# Altium footprint library 直插.PcbLib: 159 footprints (part 4 of 10)
Each footprint in its own frame and in the unit in brackets; x right, y up, seen from the top. Pads: shape width x height; smd on the part's side, far side on the other; paste and mask are expansions set on the pad; w line width, h text height; cw(c..) or ccw(c..) is an arc to the next point about the centre after c.
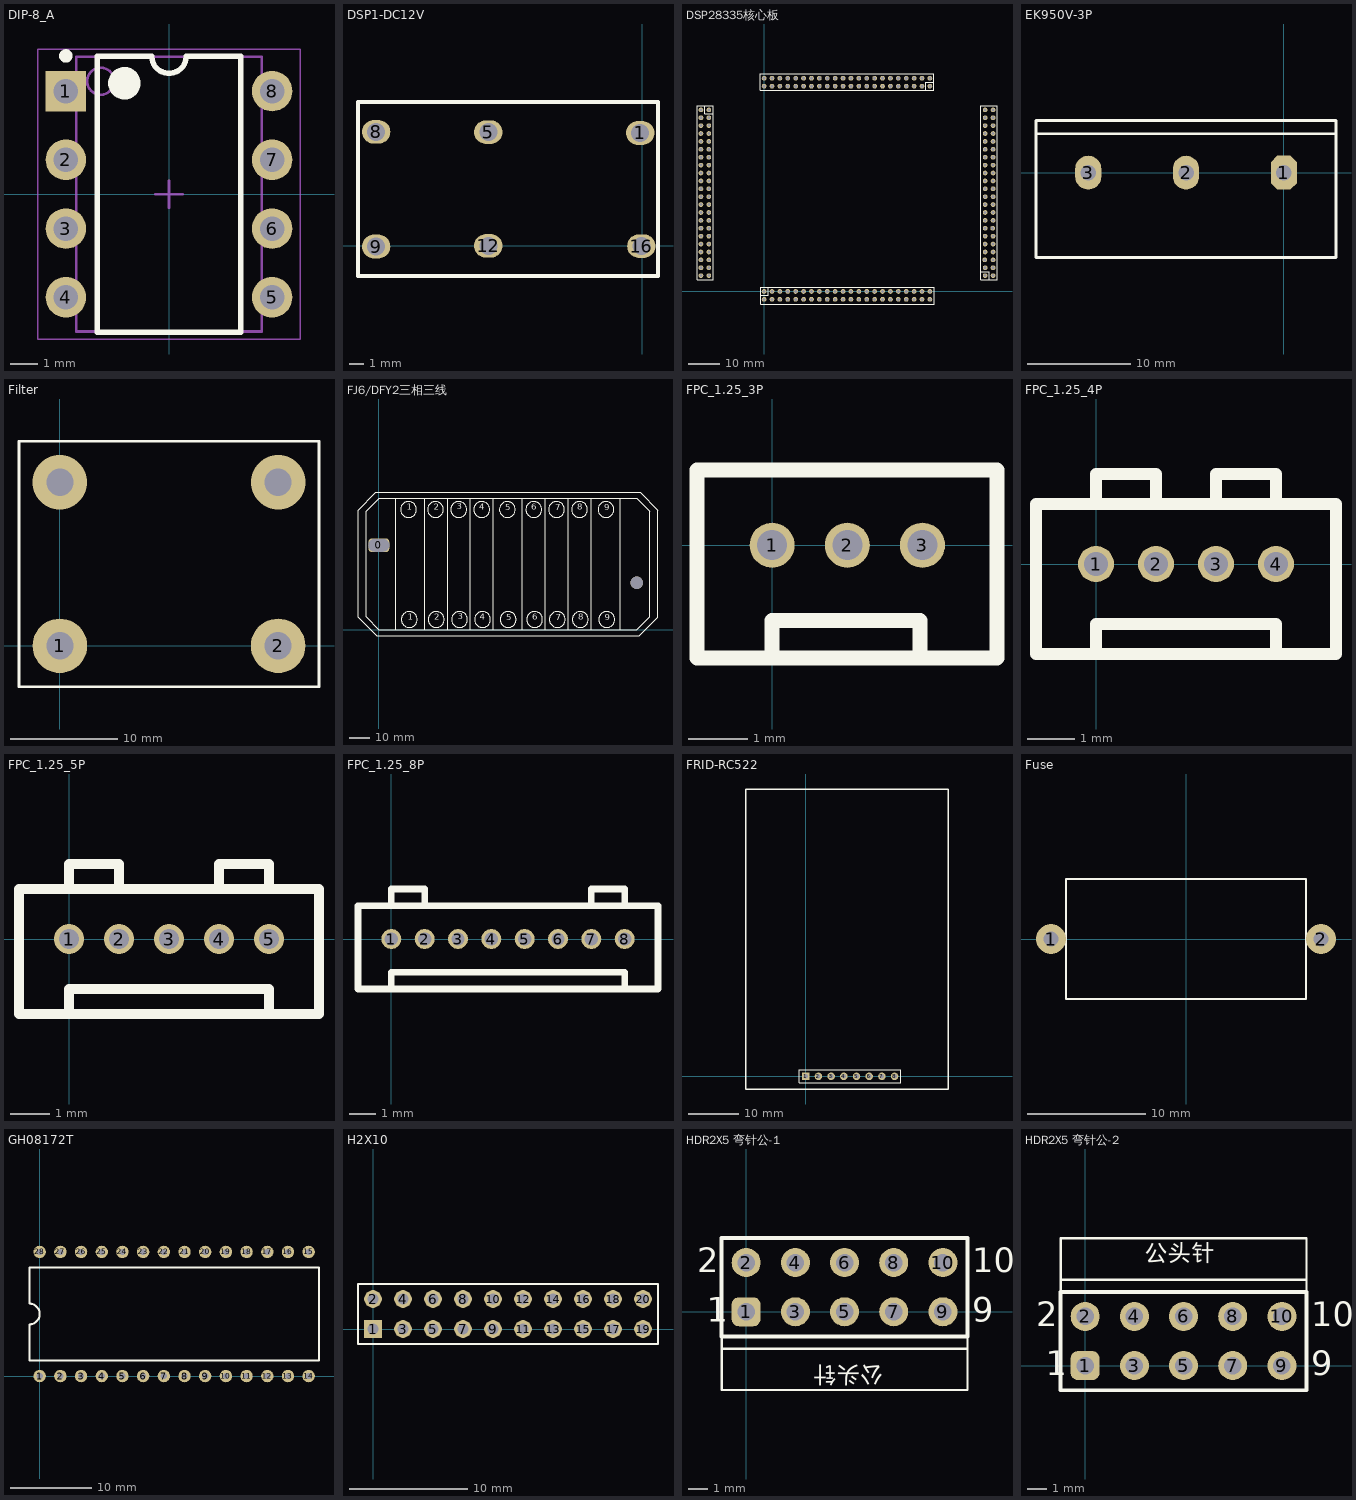
[diagram p3: the footprints below, top view; thin cyan lines are the x and y axes]

## DIP-8_A [mm] "DIP, 8-Leads, Body 10.16x6.85mm, Pitch 2.54mm"
height 4.54
pads (8):
  rect 1.5x1.5 hole 0.9: 1(-3.81,3.81)
  round 1.5 hole 0.9: 2(-3.81,1.27) 3(-3.81,-1.27) 4(-3.81,-3.81) 5(3.81,-3.81) 6(3.81,-1.27) 7(3.81,1.27) 8(3.81,3.81)
Top Overlay:
  circle w0.25: c-3.81,5.11 r0.125
  circle w0.6: c-1.65,4.1 r0.3
  lines w0.2: -2.65,-5.1 -2.65,5.1 -0.635,5.1 ccw(c0,5.1) 0.635,5.1 2.65,5.1 2.65,-5.1 -2.65,-5.1
Mechanical 13:
  circle w0.1: c-2.525,4.175 r0.5
  lines w0.1: -3.425,-5.075 -3.425,5.075 3.425,5.075 3.425,-5.075 -3.425,-5.075
Mechanical 15:
  lines w0.05: -4.85,-5.35 -4.85,5.35 4.85,5.35 4.85,-5.35 -4.85,-5.35
  lines w0.1: -0.5,0 0.5,0 ; 0,-0.5 0,0.5
3D body: height 2.39, standoff 0, extent -3.945,3.31 -3.675,4.31
3D body: height 2.66, standoff 2.38, extent -3.945,3.31 -3.425,4.31
3D body: height 0, standoff -1.6, extent -3.945,3.45 -3.675,4.17
3D body: height 2.39, standoff 0, extent -3.945,0.77 -3.675,1.77
3D body: height 2.66, standoff 2.38, extent -3.945,0.77 -3.425,1.77
3D body: height 0, standoff -1.6, extent -3.945,0.91 -3.675,1.63
3D body: height 2.39, standoff 0, extent -3.945,-1.77 -3.675,-0.77
3D body: height 2.66, standoff 2.38, extent -3.945,-1.77 -3.425,-0.77
3D body: height 0, standoff -1.6, extent -3.945,-1.63 -3.675,-0.91
3D body: height 2.39, standoff 0, extent -3.945,-4.31 -3.675,-3.31
3D body: height 2.66, standoff 2.38, extent -3.945,-4.31 -3.425,-3.31
3D body: height 0, standoff -1.6, extent -3.945,-4.17 -3.675,-3.45
3D body: height 2.39, standoff 0, extent 3.675,-4.31 3.945,-3.31
3D body: height 2.66, standoff 2.38, extent 3.425,-4.31 3.945,-3.31
3D body: height 0, standoff -1.6, extent 3.675,-4.17 3.945,-3.45
3D body: height 2.39, standoff 0, extent 3.675,-1.77 3.945,-0.77
3D body: height 2.66, standoff 2.38, extent 3.425,-1.77 3.945,-0.77
3D body: height 0, standoff -1.6, extent 3.675,-1.63 3.945,-0.91
3D body: height 2.39, standoff 0, extent 3.675,0.77 3.945,1.77
3D body: height 2.66, standoff 2.38, extent 3.425,0.77 3.945,1.77
3D body: height 0, standoff -1.6, extent 3.675,0.91 3.945,1.63
3D body: height 2.39, standoff 0, extent 3.675,3.31 3.945,4.31
3D body: height 2.66, standoff 2.38, extent 3.425,3.31 3.945,4.31
3D body: height 0, standoff -1.6, extent 3.675,3.45 3.945,4.17
3D body: height 4.54, standoff 0.5, extent -3.425,-5.075 3.425,5.075

## DSP1-DC12V [mm]
pads (6):
  oval 1.9x1.6 hole 1.2: 1(-0.152,7.569) 5(-10.338,7.62) 8(-17.856,7.645) 9(-17.856,-0.051) 12(-10.338,0) 16(-0.076,-0.025)
Top Overlay:
  lines w0.254: -19.075,-2.032 1.041,-2.032 1.041,9.652 -19.075,9.652 -19.075,-2.032

## DSP28335核心板 [mil]
pads (176):
  round 60 hole 40: 1(0,0) 2(0,-100) 3(100,0) 4(100,-100) 5(200,0) 6(200,-100) 7(300,0) 8(300,-100) 9(400,0) 10(400,-100) 11(500,0) 12(500,-100) 13(600,0) 14(600,-100) 15(700,0) 16(700,-100) 17(800,0) 18(800,-100) 19(900,0) 20(900,-100) 21(1000,0) 22(1000,-100) 23(1100,0) 24(1100,-100) 25(1200,0) 26(1200,-100) 27(1300,0) 28(1300,-100) 29(1400,0) 30(1400,-100) 31(1500,0) 32(1500,-100) 33(1600,0) 34(1600,-100) 35(1700,0) 36(1700,-100) 37(1800,0) 38(1800,-100) 39(1900,0) 40(1900,-100) 41(2000,0) 42(2000,-100) 43(2100,0) 44(2100,-100) 45(2800,200) 46(2900,200) 47(2800,300) 48(2900,300) 49(2795,400) 50(2900,400) 51(2800,500) 52(2900,500) 53(2800,600) 54(2900,600) 55(2800,700) 56(2900,700) 57(2800,800) 58(2895,800) 59(2800,900) 60(2900,900) 61(2800,1000) 62(2900,1000) 63(2800,1100) 64(2900,1100) 65(2800,1200) 66(2900,1200) 67(2800,1300) 68(2900,1300) 69(2800,1400) 70(2900,1400) 71(2800,1500) 72(2900,1500) 73(2800,1600) 74(2900,1600) 75(2800,1700) 76(2900,1700) 77(2800,1800) 78(2900,1800) 79(2800,1900) 80(2900,1900) 81(2800,2000) 82(2900,2000) 83(2800,2100) 84(2900,2100) 85(2800,2200) 86(2900,2200) 87(2800,2300) 88(2900,2300) 89(2100,2600) 90(2100,2700) 91(2000,2600) 92(2000,2700) 93(1900,2600) 94(1900,2700) 95(1800,2600) 96(1800,2700) 97(1700,2600) 98(1700,2700) 99(1600,2600) 100(1600,2700) 102(1500,2700) 103(1400,2600) 104(1400,2700) 105(1300,2600) 106(1300,2700) 107(1200,2600) 108(1200,2700) 109(1100,2600) 110(1100,2700) 111(1000,2600) 112(1000,2700) 113(900,2600) 114(900,2700) 115(800,2600) 116(800,2700) 117(700,2600) 118(700,2700) 119(600,2600) 120(600,2700) 121(500,2600) 122(500,2700) 123(400,2600) 124(400,2700) 125(300,2600) 126(300,2700) 127(200,2600) 128(200,2700) 129(100,2600) 130(100,2700) 131(0,2600) 132(0,2700) 133(-700,2300) 134(-800,2300) 135(-700,2200) 136(-800,2200) 137(-700,2100) 138(-800,2100) 139(-700,2000) 140(-800,2000) 141(-700,1900) 142(-800,1900) 143(-700,1800) 144(-800,1800) 145(-700,1700) 146(-800,1700) 147(-700,1600) 148(-800,1600) 149(-700,1500) 150(-800,1500) 151(-700,1400) 152(-800,1400) 153(-700,1300) 154(-800,1300) 155(-700,1200) 156(-800,1200) 157(-700,1100) 158(-800,1100) 159(-700,1000) 160(-800,1000) 161(-700,900) 162(-800,900) 163(-700,800) 164(-800,800) 165(-700,700) 166(-800,700) 167(-700,600) 168(-800,600) 169(-700,500) 170(-800,500) 171(-700,400) 172(-800,400) 173(-700,300) 174(-800,300) 175(-700,200) 176(-800,200)
  round 60 hole 30: 101(1500,2600)
Top Overlay:
  lines w10: -750,2355 -750,2250 -645,2250 ; -45,-50 50,-50 50,55 ; 2050,2550 2050,2650 2150,2650 ; 2750,250 2850,250 2850,145 ; -850,150 -645,150 -645,2355 -850,2355 -850,150 ; -50,2550 -50,2755 2150,2755 2150,2550 -50,2550 ; -45,-160 2155,-160 2155,55 710,55 -45,55 -45,-160 ; 2745,145 2950,145 2950,2355 2745,2355 2745,145

## EK950V-3P [mm] "Dinkle町洋EK950V-03P 印刷线路板型端子 间距9.52mm PCB Terminal Blocks , Screw Connection , Pitch: 9.52mm , M3 , 300/600V, 30A"
pads (3):
  oct 2.54x3.302 hole 1.5: 1(0,0)
  oval 2.54x3.302 hole 1.5: 2(-9.52,0) 3(-19.04,0)
Top Overlay:
  lines w0.254: -24.13,-8.255 -24.13,5.08 ; -24.13,3.81 5.08,3.81
  lines w0.305: -24.13,-8.255 5.08,-8.255 5.08,5.08 -24.13,5.08

## Filter [mil]
pads (2):
  round 200 hole 100: 1(0,0) 2(800,0)
via 800,600 diameter 200 hole 100
via 0,600 diameter 200 hole 100
Top Overlay:
  lines w10: -150,-150 -150,750 950,750 950,-150 -150,-150

## FJ6/DFY2三相三线 [mm] "FJ6/DFY2三相三线计量联合接线盒"
pads (1):
  rrect50% 10x6.5 hole 6 slot 10 at 0 deg: 0(0,40.5)
via 124,22.5 diameter 6 hole 6
via 0,40.5 diameter 6 hole 6
Top Overlay:
  circle w0.254: c14.605,4.826 r3.812
  circle w0.254: c27.559,4.826 r3.812
  circle w0.254: c38.735,4.826 r3.812
  circle w0.254: c49.784,4.826 r3.812
  circle w0.254: c62.103,4.826 r3.812
  circle w0.254: c74.803,4.826 r3.812
  circle w0.254: c85.725,4.826 r3.812
  circle w0.254: c96.774,4.826 r3.812
  circle w0.254: c109.474,4.826 r3.812
  circle w0.254: c109.093,57.658 r3.812
  circle w0.254: c96.393,57.658 r3.812
  circle w0.254: c85.344,57.658 r3.812
  circle w0.254: c74.422,57.658 r3.812
  circle w0.254: c61.722,57.658 r3.812
  circle w0.254: c49.403,57.658 r3.812
  circle w0.254: c38.354,57.658 r3.812
  circle w0.254: c27.178,57.658 r3.812
  circle w0.254: c14.224,57.658 r3.812
  lines w0.254: -0.146,62.854 -6.096,56.904 -6.096,6.096 0,0 124,0 130.048,6.048 130.048,56.952 124,63 0,63 ; 8,0.127 8,63 ; 22,0.127 22,63 ; 33,0 33,63 ; 44,0 44,63 ; 55,0 55,63 ; 69,0 69,63 ; 80,0.127 80,63 ; 91,0.127 91,63 ; 102,0.127 102,63 ; 116,0 116,63 ; -10.033,5.842 -10.033,57.404 -1.397,66.04 0.381,66.04 122.047,66.04 125.476,66.04 134.112,57.404 134.112,5.969 125.095,-3.048 121.158,-3.048 1.397,-3.048 -1.143,-3.048 -10.033,5.842
  text "1" at 13.843,3.429 h5.08
  text "2" at 26.67,3.429 h5.08
  text "3" at 37.846,3.683 h5.08
  text "4" at 48.514,3.556 h5.08
  text "5" at 61.214,3.302 h5.08
  text "6" at 73.66,3.429 h5.08
  text "7" at 85.09,3.302 h5.08
  text "8" at 95.758,3.429 h5.08
  text "9" at 108.585,3.302 h5.08
  text "9" at 108.204,56.134 h5.08
  text "8" at 95.377,56.261 h5.08
  text "7" at 84.709,56.134 h5.08
  text "6" at 73.279,56.261 h5.08
  text "5" at 60.833,56.134 h5.08
  text "4" at 48.133,56.388 h5.08
  text "3" at 37.465,56.515 h5.08
  text "2" at 26.289,56.261 h5.08
  text "1" at 13.462,56.261 h5.08

## FPC_1.25_3P [mil]
pads (3):
  round 30 hole 20: 1(0,0) 2(50,0) 3(100,0)
Top Overlay:
  lines w10: 0,-75 0,-50 98.43,-50 98.43,-72.83 ; -50,-75 149.61,-75 149.61,50 -50,50 -50,-75

## FPC_1.25_4P [mil]
pads (4):
  round 30 hole 20: 1(0,0) 2(50,0) 3(100,0) 4(150,0)
Top Overlay:
  lines w10: 0,-75 0,-50 150,-50 150,-75 ; 0,50 0,75 50,75 50,50 ; 100,50 100,75 150,75 150,50 ; -50,-75 -50,50 200,50 200,-75 -50,-75

## FPC_1.25_5P [mil]
pads (5):
  round 30 hole 20: 1(0,0) 2(50,0) 3(100,0) 4(150,0) 5(200,0)
Top Overlay:
  lines w10: 0,-75 0,-50 200,-50 200,-75 ; 0,50 0,75 50,75 50,50 ; 150,50 150,75 200,75 200,50 ; -50,-75 250,-75 250,50 -50,50 -50,-75

## FPC_1.25_8P [mil]
pads (8):
  round 30 hole 20: 1(0,0) 2(50,0) 3(100,0) 4(150,0) 5(200,0) 6(250,0) 7(300,0) 8(350,0)
Top Overlay:
  lines w10: 0,-75 0,-50 350,-50 350,-75 ; 0,50 0,75 50,75 50,50 ; 300,50 300,75 350,75 350,50 ; -50,-75 400,-75 400,50 -50,50 -50,-75

## FRID-RC522 [mm]
pads (8):
  rect 1.5x1.5 hole 0.9: 1(0,0)
  round 1.5 hole 0.9: 2(2.54,0) 3(5.08,0) 4(7.62,0) 5(10.16,0) 6(12.7,0) 7(15.24,0) 8(17.78,0)
Top Overlay:
  lines w0.2: -1.27,-1.27 19.05,-1.27 19.05,1.27 -1.27,1.27 -1.27,-1.27
  lines w0.254: -12.065,-2.54 28.575,-2.54 28.575,57.531 -12.065,57.531 -12.065,-2.54

## Fuse [mil]
pads (2):
  round 100 hole 50: 1(-450,0) 2(450,0)
Top Overlay:
  lines w7.87: -400,-200 400,-200 400,200 -400,200 -400,-200

## GH08172T [mil]
pads (28):
  round 60 hole 30: 1(0,0) 2(100,0) 3(200,0) 4(300,0) 5(400,0) 6(500,0) 7(600,0) 8(700,0) 9(800,0) 10(900,0) 11(1000,0) 12(1100,0) 13(1200,0) 14(1300,0) 15(1300,600) 16(1200,600) 17(1100,600) 18(1000,600) 19(900,600) 20(800,600) 21(700,600) 22(600,600) 23(500,600) 24(400,600) 25(300,600) 26(200,600) 27(100,600) 28(0,600)
Top Overlay:
  lines w10: -50,75 1350,75 1350,525 -50,525 -50,350 cw(c-50,300) -50,250 -50,75

## H2X10 [mm] "Connector; Header; 10x2 Position"
pads (20):
  rect 1.5x1.5 hole 0.9: 1(0,0)
  round 1.5 hole 0.9: 2(0,2.54) 3(2.54,0) 4(2.54,2.54) 5(5.08,0) 6(5.08,2.54) 7(7.62,0) 8(7.62,2.54) 9(10.16,0) 10(10.16,2.54) 11(12.7,0) 12(12.7,2.54) 13(15.24,0) 14(15.24,2.54) 15(17.78,0) 16(17.78,2.54) 17(20.32,0) 18(20.32,2.54) 19(22.86,0) 20(22.86,2.54)
Top Overlay:
  lines w0.2: -1.27,-1.27 0.635,-1.27 24.13,-1.27 24.13,3.81 0.635,3.81 -1.27,3.81 -1.27,-1.27

## HDR2X5 弯针公-1 [mm] "Connector; Header; 5x2 Position"
height 11.5
pads (10):
  rrect50% 1.5x1.5 hole 0.9: 1(0,0)
  round 1.5 hole 0.9: 2(0,2.54) 3(2.54,0) 4(2.54,2.54) 5(5.08,0) 6(5.08,2.54) 7(7.62,0) 8(7.62,2.54) 9(10.16,0) 10(10.16,2.54)
Top Overlay:
  lines w0.127: -1.27,-1.905 11.43,-1.905 ; -1.27,0 -1.27,-4.04 11.43,-4.04 11.43,0
  lines w0.2: -1.27,-1.27 -1.27,3.81 11.43,3.81 11.43,-1.27 -1.27,-1.27
  text "2" at -2.54,2.032 h1.27
  text "1" at -2.032,-0.508 h1.27
  text "9" at 11.684,-0.508 h1.27
  text "10" at 11.684,2.032 h1.27
  text "公头针" at 7.112,-2.54 h1.52

## HDR2X5 弯针公-2 [mm] "Connector; Header; 5x2 Position"
height 11.5
pads (10):
  rrect50% 1.5x1.5 hole 0.9: 1(0,0)
  round 1.5 hole 0.9: 2(0,2.54) 3(2.54,0) 4(2.54,2.54) 5(5.08,0) 6(5.08,2.54) 7(7.62,0) 8(7.62,2.54) 9(10.16,0) 10(10.16,2.54)
Top Overlay:
  lines w0.127: -1.27,2.54 -1.27,6.58 11.43,6.58 11.43,2.54 ; -1.27,4.445 11.43,4.445
  lines w0.2: -1.27,-1.27 -1.27,3.81 11.43,3.81 11.43,-1.27 -1.27,-1.27
  text "2" at -2.54,2.032 h1.27
  text "1" at -2.032,-0.508 h1.27
  text "9" at 11.684,-0.508 h1.27
  text "10" at 11.684,2.032 h1.27
  text "公头针" at 3.048,5.08 h1.52